# Altium schematic symbol library R-CRCW06032K20JNEA.Schlib: 1 symbol
Pins are listed as number, name and electrical type; pins without a type are passive.

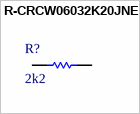
[diagram p0: symbol R-CRCW06032K20JNEA]

## R-CRCW06032K20JNEA
designator R?, comment 2k2
Thick Film Resistors - SMD 1/10watt 2.2Kohms 5%
pins: 1, 2